# Altium footprint library MINI-STM32.PcbLib: 20 footprints (part 1 of 2)
Each footprint in its own frame and in the unit in brackets; x right, y up, seen from the top. Pads: shape width x height; smd on the part's side, far side on the other; paste and mask are expansions set on the pad; w line width, h text height; cw(c..) or ccw(c..) is an arc to the next point about the centre after c.
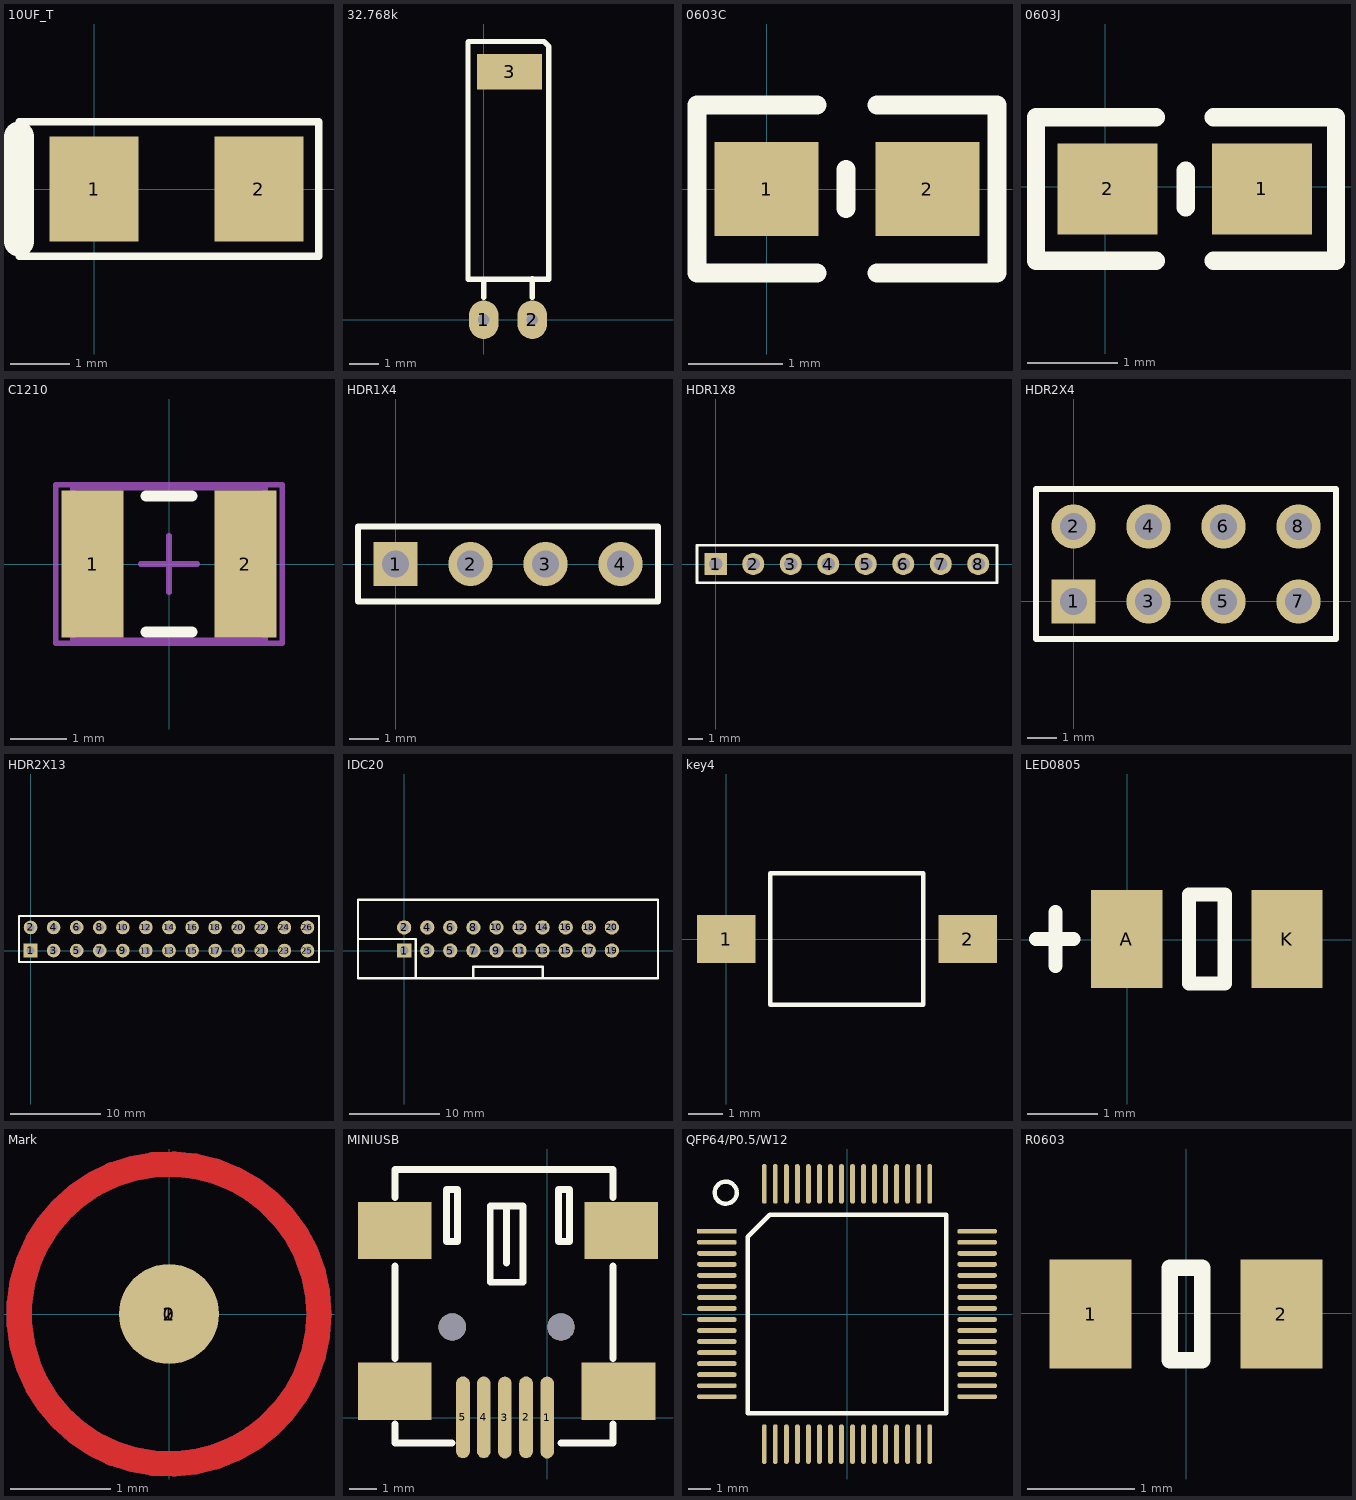
[diagram p0: the footprints below, top view; thin cyan lines are the x and y axes]

## 10UF_T [mil]
height 230.31
pads (2):
  rect 59.06x70 smd: 1(0,0)
  rect 59.05x70 smd: 2(110,0)
Top Overlay:
  lines w5: -50,-45 150,-45 150,45 -50,45
  lines w20: -50,-35 -50,35

## 32.768k [mm]
height 5.6
pads (3):
  oval 1x1.3 hole 0.4: 1(0,0) 2(1.64,0)
  rect 2.2x1.2 smd: 3(0.875,8.382)
Top Overlay:
  lines w0.178: 0,0.762 0,1.37 ; 1.64,0.762 1.64,1.386 ; -0.53,1.37 2.2,1.37 2.2,8.77 2.2,9.23 2.032,9.398 -0.508,9.398 -0.53,9.376 -0.53,8.77 -0.53,1.37

## 0603C [mm] "for capicty only"
height 0.508
pads (2):
  rect 1.1x1 smd: 1(0,0) 2(1.7,0)
Top Overlay:
  lines w0.203: 0.533,-0.889 -0.737,-0.889 -0.737,0.889 0.533,0.889 ; 0.838,-0.203 0.838,0.203 ; 1.168,-0.889 2.438,-0.889 2.438,0.889 1.168,0.889

## 0603J [mm]
height 0.55
pads (2):
  rect 1.1x1 smd: 1(1.725,-0.025) 2(0.025,-0.025)
Top Overlay:
  lines w0.203: 0.558,-0.813 -0.762,-0.813 -0.762,0.762 0.558,0.762 ; 0.887,-0.229 0.887,0.178 ; 1.193,-0.813 2.54,-0.813 2.54,0.762 1.193,0.762

## C1210 [mm] "Chip Capacitor, Body 3.2x2.5mm, IPC High Density"
height 1.3
pads (2):
  rect 1.1x2.6 smd: 1(-1.35,0) 2(1.35,0)
Top Overlay:
  lines w0.2: -0.4,-1.2 0.4,-1.2 ; -0.4,1.2 0.4,1.2
Mechanical 13:
  lines w0.1: -1.7,-1.35 1.7,-1.35 1.7,1.35 -1.7,1.35 -1.7,-1.35
Mechanical 15:
  lines w0.1: -0.5,0 0.5,0 ; 0,-0.5 0,0.5 ; -2,-1.4 2,-1.4 2,1.4 -2,1.4 -2,-1.4
3D body: height 1.3, standoff 0, extent -1.7,-1.35 1.7,1.35

## HDR1X4 [mm] "Connector; Header; 4 Position"
pads (4):
  rect 1.5x1.5 hole 0.9: 1(0,0)
  round 1.5 hole 0.9: 2(2.54,0) 3(5.08,0) 4(7.62,0)
Top Overlay:
  lines w0.2: -1.27,-1.27 -1.27,1.27 8.89,1.27 8.89,-1.27 -1.27,-1.27

## HDR1X8 [mm] "Connector; Header; 8 Position"
pads (8):
  rect 1.5x1.5 hole 0.9: 1(0,0)
  round 1.5 hole 0.9: 2(2.54,0) 3(5.08,0) 4(7.62,0) 5(10.16,0) 6(12.7,0) 7(15.24,0) 8(17.78,0)
Top Overlay:
  lines w0.2: -1.27,-1.27 -1.27,1.27 19.05,1.27 19.05,-1.27 -1.27,-1.27

## HDR2X4 [mm] "Connector; Header; 4x2 Position"
height 5.6
pads (8):
  rect 1.5x1.5 hole 0.9: 1(0,0)
  round 1.5 hole 0.9: 2(0,2.54) 3(2.54,0) 4(2.54,2.54) 5(5.08,0) 6(5.08,2.54) 7(7.62,0) 8(7.62,2.54)
Top Overlay:
  lines w0.2: -1.27,-1.27 -1.27,3.81 8.89,3.81 8.89,-1.27 -1.27,-1.27

## HDR2X13 [mm] "Connector; Header; 13x2 Position"
pads (26):
  rect 1.5x1.5 hole 0.9: 1(0,0)
  round 1.5 hole 0.9: 2(0,2.54) 3(2.54,0) 4(2.54,2.54) 5(5.08,0) 6(5.08,2.54) 7(7.62,0) 8(7.62,2.54) 9(10.16,0) 10(10.16,2.54) 11(12.7,0) 12(12.7,2.54) 13(15.24,0) 14(15.24,2.54) 15(17.78,0) 16(17.78,2.54) 17(20.32,0) 18(20.32,2.54) 19(22.86,0) 20(22.86,2.54) 21(25.4,0) 22(25.4,2.54) 23(27.94,0) 24(27.94,2.54) 25(30.48,0) 26(30.48,2.54)
Top Overlay:
  lines w0.2: -1.27,-1.27 31.75,-1.27 31.75,3.81 -1.27,3.81 -1.27,-1.27

## IDC20 [mil]
pads (20):
  rect 62x62 hole 38: 1(0,0)
  round 62 hole 38: 2(0,100) 3(100,0) 4(100,100) 5(200,0) 6(200,100) 7(300,0) 8(300,100) 9(400,0) 10(400,100) 11(500,0) 12(500,100) 13(600,0) 14(600,100) 15(700,0) 16(700,100) 17(800,0) 18(800,100) 19(900,0) 20(900,100)
Top Overlay:
  lines w10: -200,50 50,50 50,-120 ; 300,-120 300,-70 600,-70 600,-120 ; -200,-120 1100,-120 1100,220 -200,220 -200,-120

## key4 [mm]
pads (2):
  rect 1.7x1.4 smd: 1(0,0) 2(7,0)
Top Overlay:
  lines w0.127: 1.27,-1.905 5.715,-1.905 5.715,1.905 1.27,1.905 1.27,-1.905

## LED0805 [mil]
height 220.47
pads (2):
  rect 40x55 smd: A(-0.38,0.28) K(89.62,0.28)
Top Overlay:
  lines w8: -51.38,0.28 -30.38,0.28 ; -40.38,-14.72 -40.38,15.28 ; 34.62,-24.72 54.62,-24.72 54.62,25.28 34.62,25.28 34.62,-24.72

## Mark [mm]
height 1.6
pads (3):
  round 1 all layers, no hole: 0(0,0)
  round 2.7 on Top Solder: 1(0,0)
  round 2.7 on Bottom Solder: 2(0,0)
Top Layer:
  circle w0.254: c0,0 r1.5
Bottom Layer:
  circle w0.254: c0,0 r1.5

## MINIUSB [mm]
height 5.6
pads (11):
  oval 0.5x3 smd: 1(0,0) 2(-0.775,0.009) 3(-1.549,0) 4(-2.324,0.009) 5(-3.086,0.009)
  rect 2.7x2.1 smd: ""(-5.586,0.962) ""(-5.586,6.862) ""(2.614,0.962) ""(2.714,6.862)
  round 1 hole 1: ""(-3.48,3.324) ""(0.508,3.324)
Top Overlay:
  lines w0.254: -5.586,-0.238 -5.586,-0.938 -3.486,-0.938 ; -5.586,2.162 -5.586,5.562 ; -5.586,8.062 -5.586,9.095 2.414,9.095 2.414,8.062 ; -1.486,5.662 -1.486,7.762 ; 0.514,-0.938 2.414,-0.938 2.414,-0.238 ; 2.414,2.162 2.414,5.562 ; -3.686,6.462 -3.286,6.462 -3.286,8.362 -3.686,8.362 -3.686,6.462 ; -2.086,4.962 -2.086,7.762 -0.886,7.762 -0.886,4.962 -2.086,4.962 ; 0.414,6.462 0.814,6.462 0.814,8.362 0.414,8.362 0.414,6.462

## QFP64/P0.5/W12 [mm]
height 5.6
pads (64):
  rect 1.8x0.22 smd: 1(-5.904,3.752)
  oval 1.8x0.22 smd: 2(-5.904,3.252) 3(-5.904,2.752) 4(-5.904,2.252) 5(-5.904,1.752) 6(-5.904,1.252) 7(-5.904,0.752) 8(-5.904,0.252) 9(-5.904,-0.248) 10(-5.904,-0.748) 11(-5.904,-1.248) 12(-5.904,-1.748) 13(-5.904,-2.248) 14(-5.904,-2.748) 15(-5.904,-3.248) 16(-5.904,-3.748) 33(5.896,-3.748) 34(5.896,-3.248) 35(5.896,-2.748) 36(5.896,-2.248) 37(5.896,-1.748) 38(5.896,-1.248) 39(5.896,-0.748) 40(5.896,-0.248) 41(5.896,0.252) 42(5.896,0.752) 43(5.896,1.252) 44(5.896,1.752) 45(5.896,2.252) 46(5.896,2.752) 47(5.896,3.252) 48(5.896,3.752)
  oval 0.22x1.8 smd: 17(-3.754,-5.898) 18(-3.254,-5.898) 19(-2.754,-5.898) 20(-2.254,-5.898) 21(-1.754,-5.898) 22(-1.254,-5.898) 23(-0.754,-5.898) 24(-0.254,-5.898) 25(0.246,-5.898) 26(0.746,-5.898) 27(1.246,-5.898) 28(1.746,-5.898) 29(2.246,-5.898) 30(2.746,-5.898) 31(3.246,-5.898) 32(3.746,-5.898) 49(3.746,5.902) 50(3.246,5.902) 51(2.746,5.902) 52(2.246,5.902) 53(1.746,5.902) 54(1.246,5.902) 55(0.746,5.902) 56(0.246,5.902) 57(-0.254,5.902) 58(-0.754,5.902) 59(-1.254,5.902) 60(-1.754,5.902) 61(-2.254,5.902) 62(-2.754,5.902) 63(-3.254,5.902) 64(-3.754,5.902)
Top Overlay:
  circle w0.2: c-5.504,5.502 r0.5
  lines w0.2: -4.504,-4.498 4.496,-4.498 4.496,4.502 -3.504,4.502 -4.504,3.502 -4.504,-4.498

## R0603 [mil]
height 220.47
pads (2):
  rect 30x40 smd: 1(-35.06,-0.32) 2(34.94,-0.32)
Top Overlay:
  lines w6: -6.06,-17.32 -6.06,16.68 5.94,16.68 5.94,-17.32 -6.06,-17.32